# EAGLE library part MX150L-8PINS (library HyTechDevices)
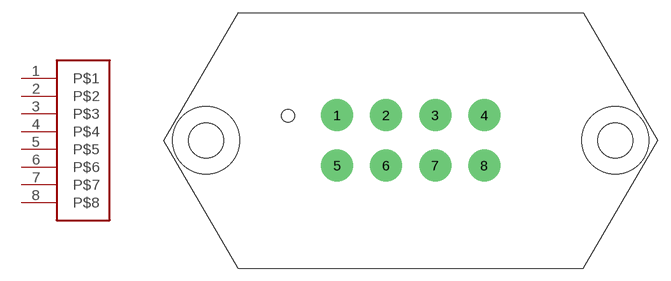
[diagram p63: symbol with the pads of MX150L_VERTICAL-8; footprint MX150L_VERTICAL-8]

Designator prefix -

## MX150L-8PINS  [MX150L_VERTICAL-8]
1  P$1
2  P$2
3  P$3
4  P$4
5  P$5
6  P$6
7  P$7
8  P$8

## Footprint MX150L_VERTICAL-8 (pad centres in mm)
19428-0014 MX150L™ Vertical PCB Header
drill 1.778 pad 3.81: 1 -8.763,2.997; 2 -2.921,2.997; 3 2.921,2.997; 4 8.763,2.997; 5 -8.763,-2.997; 6 -2.921,-2.997; 7 2.921,-2.997; 8 8.763,-2.997
hole 4.191 at -24.371,0
hole 4.191 at 24.371,0
hole 1.524 at -14.605,2.921